# Altium schematic symbol library STM32F405.SchLib: 2 symbols
Pins are listed as number, name and electrical type; pins without a type are passive.

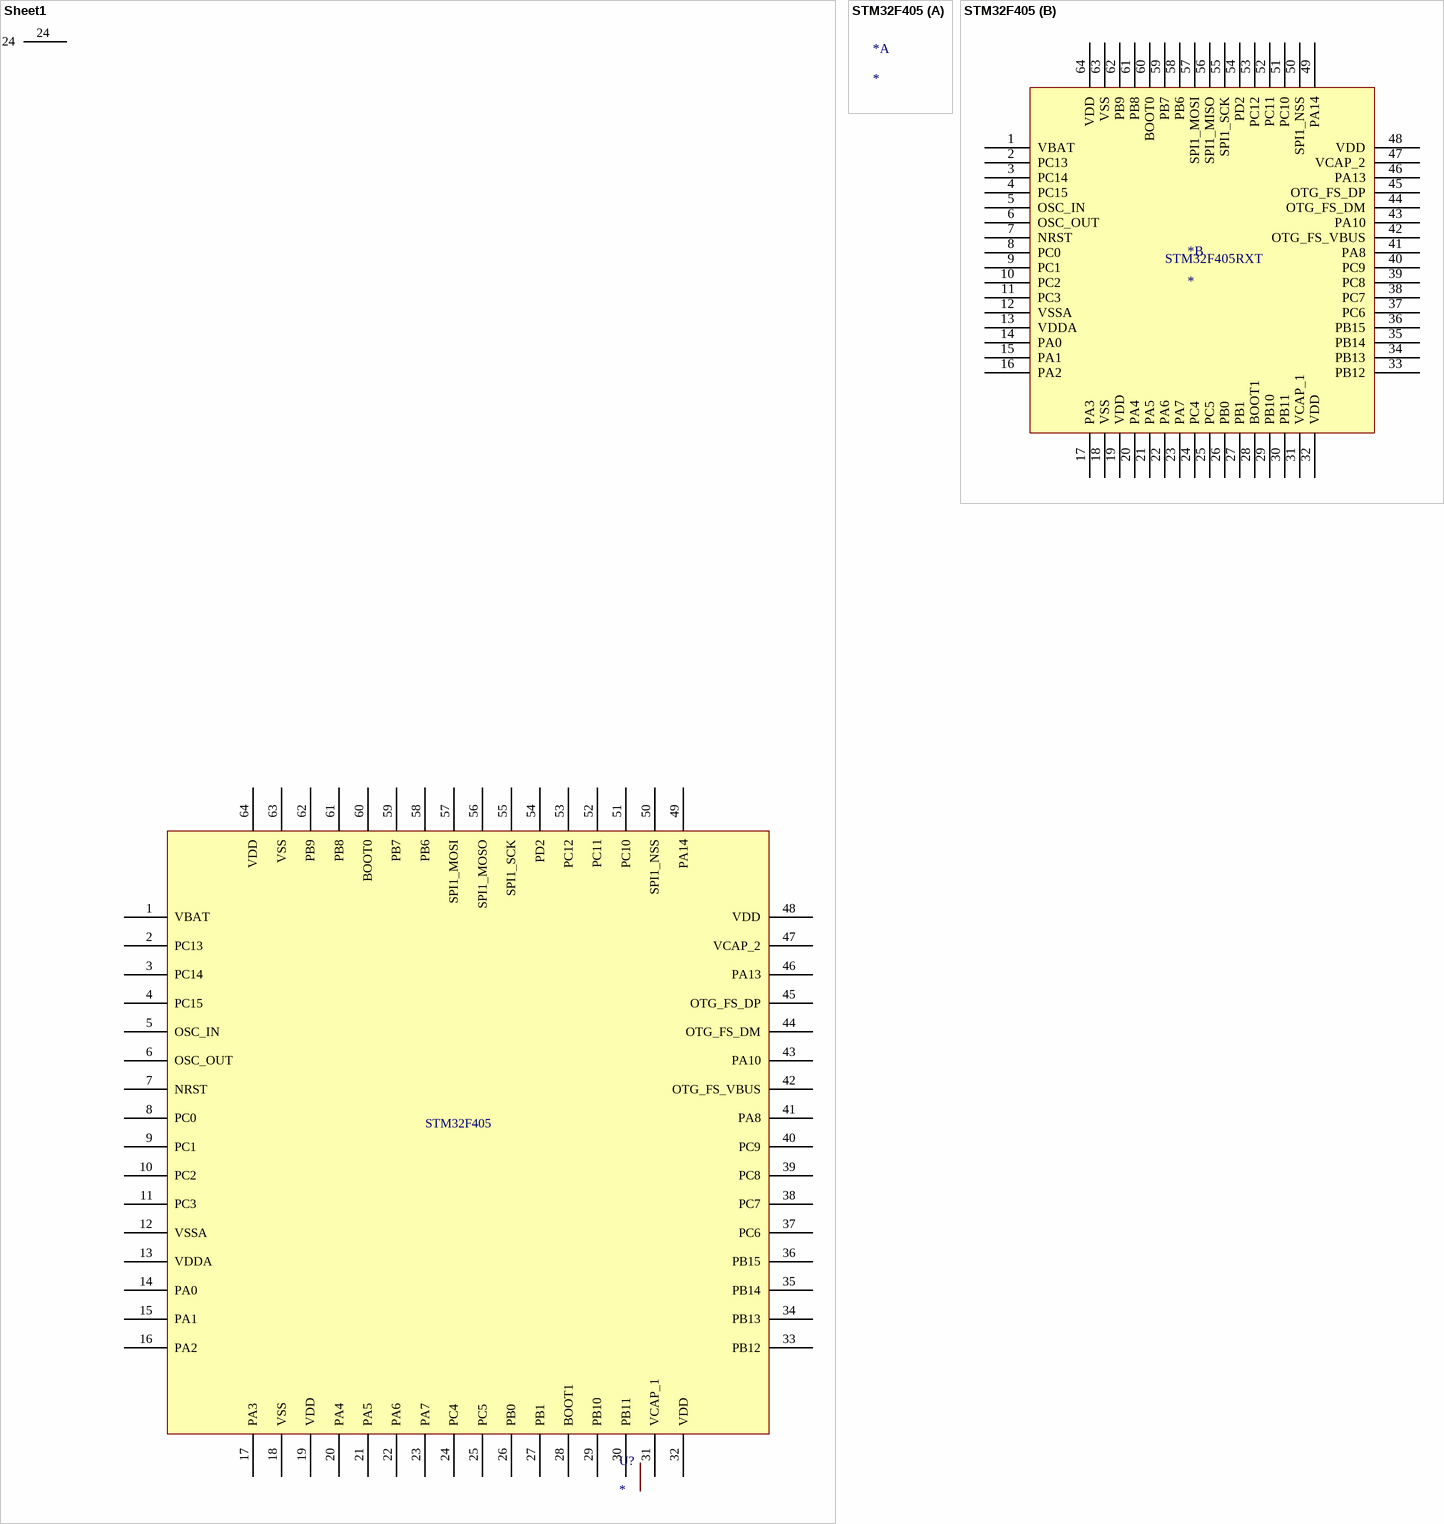
[diagram p0: symbols Sheet1 to STM32F405]

## Sheet1
designator U?
pins: 1 VBAT, 2 PC13, 3 PC14, 4 PC15, 5 OSC_IN, 6 OSC_OUT, 7 NRST, 8 PC0, 9 PC1, 10 PC2, 11 PC3, 12 VSSA, 13 VDDA, 14 PA0, 15 PA1, 16 PA2, 17 PA3, 18 VSS, 19 VDD, 20 PA4, 21 PA5, 22 PA6, 23 PA7, 24, 24 PC4, 25 PC5, 26 PB0, 27 PB1, 28 BOOT1, 29 PB10, 30 PB11, 31 VCAP_1, 32 VDD, 33 PB12, 34 PB13, 35 PB14, 36 PB15, 37 PC6, 38 PC7, 39 PC8, 40 PC9, 41 PA8, 42 OTG_FS_VBUS, 43 PA10, 44 OTG_FS_DM, 45 OTG_FS_DP, 46 PA13, 47 VCAP_2, 48 VDD, 49 PA14, 50 SPI1_NSS, 51 PC10, 52 PC11, 53 PC12, 54 PD2, 55 SPI1_SCK, 56 SPI1_MOSO, 57 SPI1_MOSI, 58 PB6, 59 PB7, 60 BOOT0, 61 PB8, 62 PB9, 63 VSS, 64 VDD
text: STM32F405

## STM32F405
designator *
part B pins: 1 VBAT, 2 PC13, 3 PC14, 4 PC15, 5 OSC_IN, 6 OSC_OUT, 7 NRST, 8 PC0, 9 PC1, 10 PC2, 11 PC3, 12 VSSA, 13 VDDA, 14 PA0, 15 PA1, 16 PA2, 17 PA3, 18 VSS, 19 VDD, 20 PA4, 21 PA5, 22 PA6, 23 PA7, 24 PC4, 25 PC5, 26 PB0, 27 PB1, 28 BOOT1, 29 PB10, 30 PB11, 31 VCAP_1, 32 VDD, 33 PB12, 34 PB13, 35 PB14, 36 PB15, 37 PC6, 38 PC7, 39 PC8, 40 PC9, 41 PA8, 42 OTG_FS_VBUS, 43 PA10, 44 OTG_FS_DM, 45 OTG_FS_DP, 46 PA13, 47 VCAP_2, 48 VDD, 49 PA14, 50 SPI1_NSS, 51 PC10, 52 PC11, 53 PC12, 54 PD2, 55 SPI1_SCK, 56 SPI1_MISO, 57 SPI1_MOSI, 58 PB6, 59 PB7, 60 BOOT0, 61 PB8, 62 PB9, 63 VSS, 64 VDD
part B text: STM32F405RXT